# Altium schematic symbol library samtec-std-hdr.SchLib: 21 symbols
Pins are listed as number, name and electrical type; pins without a type are passive.

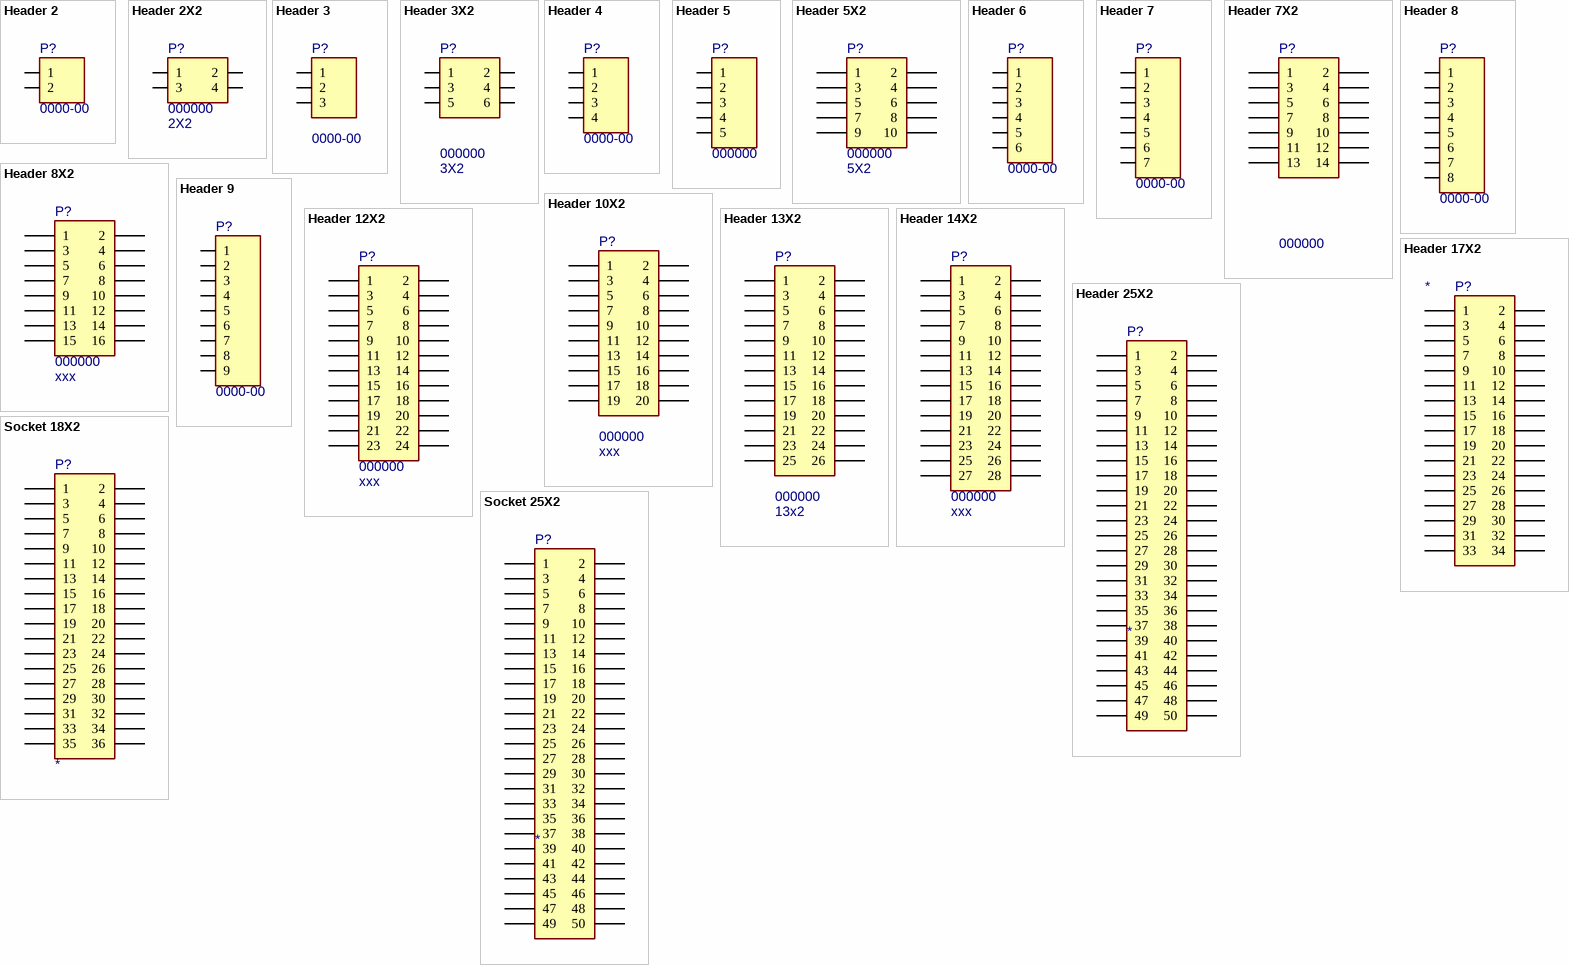
[diagram p0: symbols Header 2 to Socket 25X2]

## Header 2
designator P?, comment 0000-00
Header, 2-Pin; MF: Samtec; Value: *; PN: 0000-00; ExtraInfo: *
footprint SMH-104-02-L-S (4pos, 2.54mm, SMT Horizontal Socket)
signal-integrity model Connector
footprint TSW-102-07-G-S (.025"  SQ  POST HEADER 2.54mm 2x1)
pins: 1, 2

## Header 2X2
designator P?, comment 000000  value 2X2
Socket 2-Pin, Dual row; MF: Samtec; PN: 000000; Package: SMD; ExtraInfo: *; MF PN: *
signal-integrity model Connector
footprint TSM-102-01-X-DV (4pos, 2.54mm, SMT HEADER)
pins: 1, 2, 3, 4

## Header 3
designator P?, comment 0000-00
Header, 3Pin; MF: Samtec; Value: *; PN: 0000-00; ExtraInfo: *; Package: *
signal-integrity model Connector
footprint TSM-103-01-X-SV (4pos, 2.54mm, SMT HEADER)
footprint TSW-103-07-G-S (.025"  SQ  POST HEADER 2.54mm 3 Positions)
pins: 1, 2, 3

## Header 3X2
designator P?, comment 000000  value 3X2
Socket 3-Pin, Dual row; MF: Samtec; PN: 000000; Package: SMD; ExtraInfo: *; MF PN: *
signal-integrity model Connector
footprint TSM-103-01-X-DV (6pos, 2.54mm, SMT HEADER)
pins: 1, 2, 3, 4, 5, 6

## Header 4
designator P?, comment 0000-00
Header, 4-Pin; MF: Samtec; Value: *; PN: 0000-00; ExtraInfo: *; Package: *
footprint SMH-104-02-L-S (4pos, 2.54mm, SMT Horizontal Socket)
signal-integrity model Connector
footprint TSM-104-01-L-SH (4pos, 2.54mm, SMT HEADER)
pins: 1, 2, 3, 4

## Header 5
designator P?, comment 000000
Header, 5-Pin; MF: Samtec; Value: *; PN: 000000; Package: *; ExtraInfo: *
signal-integrity model Connector
footprint TSW-105-07-G-S (.025"  SQ  POST HEADER 2.54mm 5 Positions)
footprint SSW-105-01-G-S (.025"  SQ  POST HEADER 2.54mm 5 Positions)
pins: 1, 2, 3, 4, 5

## Header 5X2
designator P?, comment 000000  value 5X2
Socket 5-Pin, Dual row; MF: Samtec; PN: 000000; Package: SMD; ExtraInfo: *
signal-integrity model Connector
footprint FTR-105-01-G-D (SAMTEC HEADER SMD 1.27mm x 2.54mm 2x10)
footprint FTS-105-01-L-DV (HEADER SMD 1.27mm 2x5)
footprint FTS-105-01-L-D (HEADER PTH 1.27mm 2x5)
footprint EHF-105-01-L-D (HEADER T/H 1.27mm 2x5)
footprint 5X2 (HEADER PTH 1.27mm 2x5)
footprint TSW-105-07-G-D (.025"  SQ  POST HEADER 2.54mm 2x5)
footprint TSM-105-01-X-DV (10pos, 2.54mm, SMT HEADER)
footprint TST-105-04-G-D-RA (SHROUDED  .025"  SQ  POST HEADER 2.54mm 2x5)
pins: 1, 2, 3, 4, 5, 6, 7, 8, 9, 10

## Header 6
designator P?, comment 0000-00
Header, 6-Pin; MF: Samtec; Package: *; PN: 0000-00; ExtraInfo: *; Value: *
signal-integrity model Connector
footprint TSM-106-01-L-SH (6pos, 2.54mm, SMT HEADER)
footprint TSW-106-07-G-S (.025"  SQ  POST HEADER 2.54mm 6 Positions)
footprint SsW-106-01-G-S (.025"  SQ  RECEPTACLE 2.54mm 6 Positions)
pins: 1, 2, 3, 4, 5, 6

## Header 7
designator P?, comment 0000-00
Header, 7-Pin; MF: Samtec; Package: *; PN: 0000-00; ExtraInfo: *; Value: *
signal-integrity model Connector
footprint TSW-107-07-G-S (.025"  SQ  POST HEADER 2.54mm 7 Positions)
pins: 1, 2, 3, 4, 5, 6, 7

## Header 7X2
designator P?, comment 000000
Socket 7-Pin, Dual row; Value: xxx; MF: Samtec; PN: 000000; ExtraInfo: *
signal-integrity model Connector
footprint TSM-107-02-X-DV (14pos, 2.54mm, SMT HEADER)
footprint TST-107-01-G-D (SHROUDED  .025"  SQ  POST HEADER 2.54mm 2x7)
pins: 1, 2, 3, 4, 5, 6, 7, 8, 9, 10, 11, 12, 13, 14

## Header 8
designator P?, comment 0000-00
Header, 8-Pin; MF: Samtec; Package: *; PN: 0000-00; ExtraInfo: *; Value: *
signal-integrity model Connector
footprint TSW-108-07-G-S (.025"  SQ  POST HEADER 2.54mm 8 Positions)
pins: 1, 2, 3, 4, 5, 6, 7, 8

## Header 8X2
designator P?, comment 000000  value xxx
Socket 8-Pin, Dual row; MF: Samtec; PN: 000000; ExtraInfo: *
signal-integrity model Connector
footprint FTS-108-01-L-DV (HEADER SMD 1.27mm 2x8)
pins: 1, 2, 3, 4, 5, 6, 7, 8, 9, 10, 11, 12, 13, 14, 15, 16

## Header 9
designator P?, comment 0000-00
Header, 9-Pin; MF: Samtec; Package: *; PN: 0000-00; ExtraInfo: *; Value: *
signal-integrity model Connector
footprint TSW-109-07-G-S (.025"  SQ  POST HEADER 2.54mm 9 Positions)
pins: 1, 2, 3, 4, 5, 6, 7, 8, 9

## Header 10X2
designator P?, comment 000000  value xxx
Socket 10-Pin, Dual row; MF: Samtec; PN: 000000; ExtraInfo: *
signal-integrity model Connector
footprint FTS-110-01-L-DV (SAMTEC HEADER SMD 1.27mm 2x10)
footprint FTR-110-01-G-D-A (SAMTEC HEADER SMD 1.27mm x 2.54mm 2x10)
footprint TSM-110-01-L-DV (20pos, 2.54mm, SMT HEADER)
footprint TST-110-04-G-D-RA (SHROUDED  .025"  SQ  POST HEADER 2.54mm 2x5)
footprint TST-110-01-G-D (SHROUDED  .025"  SQ  POST HEADER 2.54mm 2x10)
pins: 1, 2, 3, 4, 5, 6, 7, 8, 9, 10, 11, 12, 13, 14, 15, 16, 17, 18, 19, 20

## Header 12X2
designator P?, comment 000000  value xxx
Socket 12-Pin, Dual row; MF: Samtec; PN: 000000; ExtraInfo: *
signal-integrity model Connector
footprint MTMM-112-04-L-D-158 (2.0mm  SQ  POST HEADER 2x12)
pins: 1, 2, 3, 4, 5, 6, 7, 8, 9, 10, 11, 12, 13, 14, 15, 16, 17, 18, 19, 20, 21, 22, 23, 24

## Header 13X2
designator P?, comment 000000  value 13x2
Socket 13-Pin, Dual row; MF: Samtec; PN: 000000; ExtraInfo: *; MF PN: *
signal-integrity model Connector
footprint TST-113-04-G-D-RA (SHROUDED  .025"  SQ  POST HEADER 2.54mm 2x13)
footprint TST-113-01-G-D (SHROUDED  .025"  SQ  POST HEADER 2.54mm 2x13)
pins: 1, 2, 3, 4, 5, 6, 7, 8, 9, 10, 11, 12, 13, 14, 15, 16, 17, 18, 19, 20, 21, 22, 23, 24, 25, 26

## Header 14X2
designator P?, comment 000000  value xxx
Socket 14-Pin, Dual row; MF: Samtec; PN: 000000; ExtraInfo: *
signal-integrity model Connector
footprint MTMM-114-04-L-D-158 (2.0mm  SQ  POST HEADER 2x14)
pins: 1, 2, 3, 4, 5, 6, 7, 8, 9, 10, 11, 12, 13, 14, 15, 16, 17, 18, 19, 20, 21, 22, 23, 24, 25, 26, 27, 28

## Header 17X2
designator P?
Socket 17-Pin, Dual row; MF: Samtec; PN: *; Value: *; ExtraInfo: *; Package: *
signal-integrity model Connector
footprint TST-117-01-G-D (SHROUDED  .025"  SQ  POST HEADER 2.54mm 2x17)
pins: 1, 2, 3, 4, 5, 6, 7, 8, 9, 10, 11, 12, 13, 14, 15, 16, 17, 18, 19, 20, 21, 22, 23, 24, 25, 26, 27, 28, 29, 30, 31, 32, 33, 34

## Header 25X2
designator P?
Socket 25-Pin, Dual row; MF: Samtec; PN: *; Value: *; ExtraInfo: *; Package: *
signal-integrity model Connector
footprint FTS-125-02-L-DV (SAMTEC HEADER SMD 1.27mm 2x25)
pins: 1, 2, 3, 4, 5, 6, 7, 8, 9, 10, 11, 12, 13, 14, 15, 16, 17, 18, 19, 20, 21, 22, 23, 24, 25, 26, 27, 28, 29, 30, 31, 32, 33, 34, 35, 36, 37, 38, 39, 40, 41, 42, 43, 44, 45, 46, 47, 48, 49, 50

## Socket 18X2
designator P?
Socket 18-Pin, Dual row; MF: Samtec; ExtraInfo: *; PN: *; Value: *; Package: *
signal-integrity model Connector
footprint FLE-118-01-G-DV (SAMTEC SOCKET SMD 1.27mm 2x18)
pins: 1, 2, 3, 4, 5, 6, 7, 8, 9, 10, 11, 12, 13, 14, 15, 16, 17, 18, 19, 20, 21, 22, 23, 24, 25, 26, 27, 28, 29, 30, 31, 32, 33, 34, 35, 36

## Socket 25X2
designator P?
Socket 25-Pin, Dual row; MF: Samtec; PN: *; Value: *; Package: *; ExtraInfo: *
signal-integrity model Connector
footprint FLE-125-01-G-DV (SAMTEC SOCKET SMD 1.27mm 2x25)
pins: 1, 2, 3, 4, 5, 6, 7, 8, 9, 10, 11, 12, 13, 14, 15, 16, 17, 18, 19, 20, 21, 22, 23, 24, 25, 26, 27, 28, 29, 30, 31, 32, 33, 34, 35, 36, 37, 38, 39, 40, 41, 42, 43, 44, 45, 46, 47, 48, 49, 50